# EAGLE library part LMV358 (library Hocki_library )
Dual Low-Voltage Rail-to-Rail Output Operational Amplifier 2 Channel https://www.digikey.com/product-detail/en/texas-instruments/LMV358ID/296-39049-5-ND/1510583
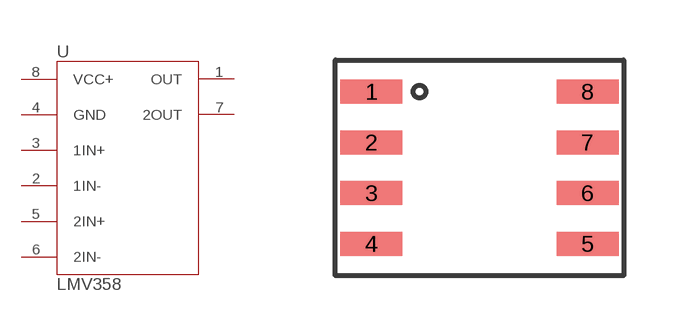
[diagram p10: symbol with the pads of LMV358-D0008A; footprint LMV358-D0008A]

Designator prefix U

## LMV358 (DKPN: 296-39049-5-ND)  [LMV358-D0008A]
1  OUT  pas
2  1IN-  pas
3  1IN+  pas
4  GND  pas
5  2IN+  pas
6  2IN-  pas
7  2OUT  pas
8  VCC+  pas

## Footprint LMV358-D0008A (pad centres in mm)
smd 1.55 x 0.6: 1 -2.7,1.905; 2 -2.7,0.635; 3 -2.7,-0.635; 4 -2.7,-1.905; 5 2.7,-1.905; 6 2.7,-0.635; 7 2.7,0.635; 8 2.7,1.905